# EAGLE library part SI9926CDY (library Neel)
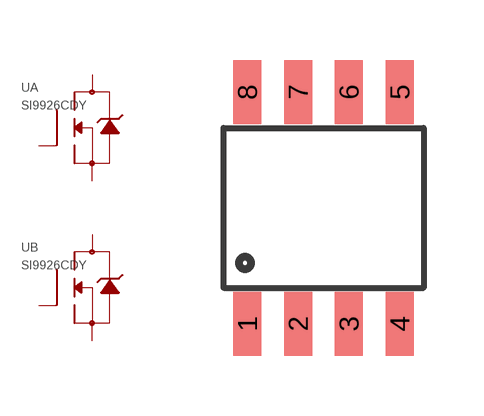
[diagram p68: symbol with the pads of SO-8; footprint SO-8]

Designator prefix -; gates A=NMOSFET B=NMOSFET

## SI9926CDY  [SO-8]
1  A:S
2  A:G
3  B:S
4  B:G
5  B:D
6  B:D
7  A:D
8  A:D

## Footprint SO-8 (pad centres in mm)
smd 0.7 x 1.6: 1 -1.905,-2.9; 2 -0.635,-2.9; 3 0.635,-2.9; 4 1.905,-2.9; 5 1.905,2.9; 6 0.635,2.9; 7 -0.635,2.9; 8 -1.905,2.9